# EAGLE library part LTM4607EVPBF (library LTM4607)
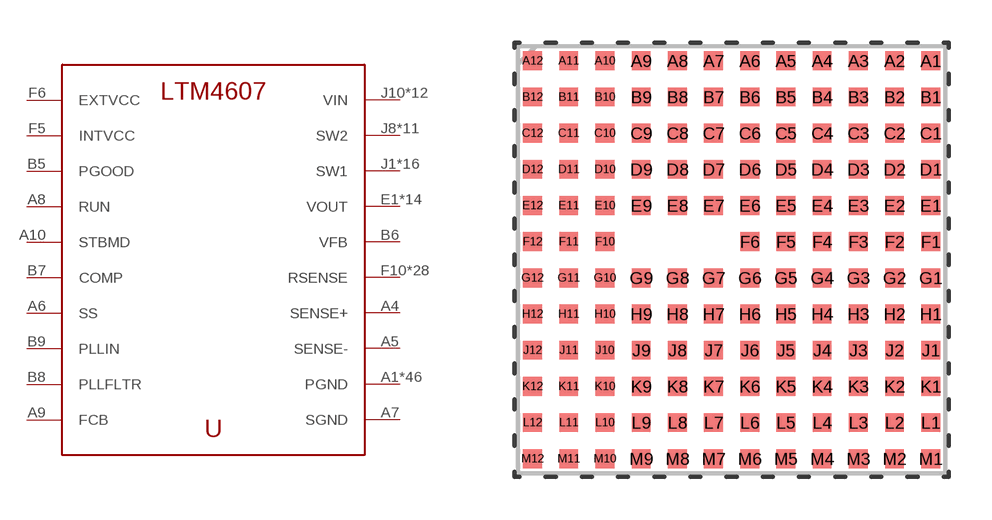
[diagram p0: symbol with the pads of LGA-141; footprint LGA-141]

Designator prefix U

## LTM4607EVPBF (MANUFACTURER_PART_NUMBER: LTM4607EV#PBF; VENDOR: Linear Technology)  [LGA-141]
A1  PGND  pwr
A2  PGND  pwr
A3  PGND  pwr
A4  SENSE+  pwr
A5  SENSE-  pwr
A6  SS  pwr
A7  SGND  pwr
A8  RUN  pwr
A9  FCB  pwr
A10  STBMD  pwr
A11  PGND  pwr
A12  PGND  pwr
B1  PGND  pwr
B2  PGND  pwr
B3  PGND  pwr
B4  PGND  pwr
B5  PGOOD  pwr
B6  VFB  pwr
B7  COMP  pwr
B8  PLLFLTR  pwr
B9  PLLIN  pwr
B10  PGND  pwr
B11  PGND  pwr
B12  PGND  pwr
C1  PGND  pwr
C2  PGND  pwr
C3  PGND  pwr
C4  PGND  pwr
C5  PGND  pwr
C6  PGND  pwr
C7  PGND  pwr
C8  PGND  pwr
C9  PGND  pwr
C10  PGND  pwr
C11  PGND  pwr
C12  PGND  pwr
D1  PGND  pwr
D2  PGND  pwr
D3  PGND  pwr
D4  PGND  pwr
D5  PGND  pwr
D6  PGND  pwr
D7  PGND  pwr
D8  PGND  pwr
D9  PGND  pwr
D10  PGND  pwr
D11  PGND  pwr
D12  PGND  pwr
E1  VOUT  pwr
E2  VOUT  pwr
E3  PGND  pwr
E4  PGND  pwr
E5  PGND  pwr
E6  PGND  pwr
E7  PGND  pwr
E8  PGND  pwr
E9  PGND  pwr
E10  PGND  pwr
E11  PGND  pwr
E12  PGND  pwr
F1  VOUT  pwr
F2  VOUT  pwr
F3  VOUT  pwr
F4  VOUT  pwr
F5  INTVCC  pwr
F6  EXTVCC  pwr
F10  RSENSE  pwr
F11  RSENSE  pwr
F12  RSENSE  pwr
G1  VOUT  pwr
G2  VOUT  pwr
G3  VOUT  pwr
G4  VOUT  pwr
G5  RSENSE  pwr
G6  RSENSE  pwr
G7  RSENSE  pwr
G8  RSENSE  pwr
G9  RSENSE  pwr
G10  RSENSE  pwr
G11  RSENSE  pwr
G12  RSENSE  pwr
H1  VOUT  pwr
H2  VOUT  pwr
H3  VOUT  pwr
H4  VOUT  pwr
H5  RSENSE  pwr
H6  RSENSE  pwr
H7  RSENSE  pwr
H8  RSENSE  pwr
H9  RSENSE  pwr
H10  RSENSE  pwr
H11  RSENSE  pwr
H12  RSENSE  pwr
J1  SW1  pwr
J2  SW1  pwr
J3  SW1  pwr
J4  SW1  pwr
J5  RSENSE  pwr
J6  RSENSE  pwr
J7  RSENSE  pwr
J8  SW2  pwr
J9  SW2  pwr
J10  VIN  pwr
J11  VIN  pwr
J12  VIN  pwr
K1  SW1  pwr
K2  SW1  pwr
K3  SW1  pwr
K4  SW1  pwr
K5  RSENSE  pwr
K6  RSENSE  pwr
K7  SW2  pwr
K8  SW2  pwr
K9  SW2  pwr
K10  VIN  pwr
K11  VIN  pwr
K12  VIN  pwr
L1  SW1  pwr
L2  SW1  pwr
L3  SW1  pwr
L4  SW1  pwr
L5  RSENSE  pwr
L6  RSENSE  pwr
L7  SW2  pwr
L8  SW2  pwr
L9  SW2  pwr
L10  VIN  pwr
L11  VIN  pwr
L12  VIN  pwr
M1  SW1  pwr
M2  SW1  pwr
M3  SW1  pwr
M4  SW1  pwr
M5  RSENSE  pwr
M6  RSENSE  pwr
M7  SW2  pwr
M8  SW2  pwr
M9  SW2  pwr
M10  VIN  pwr
M11  VIN  pwr
M12  VIN  pwr

## Footprint LGA-141 (pad centres in mm)
smd 0.66 x 0.66: A1 6.985,6.985; A2 5.715,6.985; A3 4.445,6.985; A4 3.175,6.985; A5 1.905,6.985; A6 0.635,6.985; A7 -0.635,6.985; A8 -1.905,6.985; A9 -3.175,6.985; A10 -4.445,6.985; A11 -5.715,6.985; A12 -6.985,6.985; B1 6.985,5.715; B2 5.715,5.715; B3 4.445,5.715; B4 3.175,5.715; B5 1.905,5.715; B6 0.635,5.715; B7 -0.635,5.715; B8 -1.905,5.715; B9 -3.175,5.715; B10 -4.445,5.715; B11 -5.715,5.715; B12 -6.985,5.715; C1 6.985,4.445; C2 5.715,4.445; C3 4.445,4.445; C4 3.175,4.445; C5 1.905,4.445; C6 0.635,4.445; C7 -0.635,4.445; C8 -1.905,4.445; C9 -3.175,4.445; C10 -4.445,4.445; C11 -5.715,4.445; C12 -6.985,4.445; D1 6.985,3.175; D2 5.715,3.175; D3 4.445,3.175; D4 3.175,3.175; D5 1.905,3.175; D6 0.635,3.175; D7 -0.635,3.175; D8 -1.905,3.175; D9 -3.175,3.175; D10 -4.445,3.175; D11 -5.715,3.175; D12 -6.985,3.175; E1 6.985,1.905; E2 5.715,1.905; E3 4.445,1.905; E4 3.175,1.905; E5 1.905,1.905; E6 0.635,1.905; E7 -0.635,1.905; E8 -1.905,1.905; E9 -3.175,1.905; E10 -4.445,1.905; E11 -5.715,1.905; E12 -6.985,1.905; F1 6.985,0.635; F2 5.715,0.635; F3 4.445,0.635; F4 3.175,0.635; F5 1.905,0.635; F6 0.635,0.635; F10 -4.445,0.635; F11 -5.715,0.635; F12 -6.985,0.635; G1 6.985,-0.635; G2 5.715,-0.635; G3 4.445,-0.635; G4 3.175,-0.635; G5 1.905,-0.635; G6 0.635,-0.635; G7 -0.635,-0.635; G8 -1.905,-0.635; G9 -3.175,-0.635; G10 -4.445,-0.635; G11 -5.715,-0.635; G12 -6.985,-0.635; H1 6.985,-1.905; H2 5.715,-1.905; H3 4.445,-1.905; H4 3.175,-1.905; H5 1.905,-1.905; H6 0.635,-1.905; H7 -0.635,-1.905; H8 -1.905,-1.905; H9 -3.175,-1.905; H10 -4.445,-1.905; H11 -5.715,-1.905; H12 -6.985,-1.905; J1 6.985,-3.175; J2 5.715,-3.175; J3 4.445,-3.175; J4 3.175,-3.175; J5 1.905,-3.175; J6 0.635,-3.175; J7 -0.635,-3.175; J8 -1.905,-3.175; J9 -3.175,-3.175; J10 -4.445,-3.175; J11 -5.715,-3.175; J12 -6.985,-3.175; K1 6.985,-4.445; K2 5.715,-4.445; K3 4.445,-4.445; K4 3.175,-4.445; K5 1.905,-4.445; K6 0.635,-4.445; K7 -0.635,-4.445; K8 -1.905,-4.445; K9 -3.175,-4.445; K10 -4.445,-4.445; K11 -5.715,-4.445; K12 -6.985,-4.445; L1 6.985,-5.715; L2 5.715,-5.715; L3 4.445,-5.715; L4 3.175,-5.715; L5 1.905,-5.715; L6 0.635,-5.715; L7 -0.635,-5.715; L8 -1.905,-5.715; L9 -3.175,-5.715; L10 -4.445,-5.715; L11 -5.715,-5.715; L12 -6.985,-5.715; M1 6.985,-6.985; M2 5.715,-6.985; M3 4.445,-6.985; M4 3.175,-6.985; M5 1.905,-6.985; M6 0.635,-6.985; M7 -0.635,-6.985; M8 -1.905,-6.985; M9 -3.175,-6.985; M10 -4.445,-6.985; M11 -5.715,-6.985; M12 -6.985,-6.985